# Altium schematic symbol library SCH - DRIVER - LED - TI TPS61122_PW_16.SchLib: 1 symbol
Pins are listed as number, name and electrical type; pins without a type are passive.

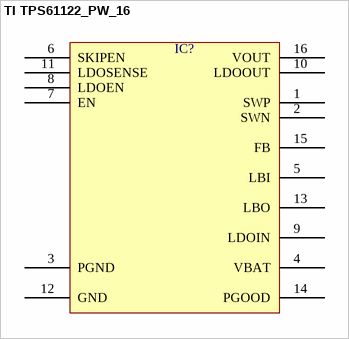
[diagram p0: symbol TI TPS61122_PW_16]

## TI TPS61122_PW_16
designator IC?  (value not drawn)
pins: 1 SWP, 2 SWN, 3 PGND, 4 VBAT, 5 LBI, 6 SKIPEN, 7 EN, 8 LDOEN, 9 LDOIN, 10 LDOOUT, 11 LDOSENSE, 12 GND, 13 LBO, 14 PGOOD, 15 FB, 16 VOUT